# Altium footprint library CornellBajaLibrary.PcbLib: 134 footprints (part 9 of 9)
Each footprint in its own frame and in the unit in brackets; x right, y up, seen from the top. Pads: shape width x height; smd on the part's side, far side on the other; paste and mask are expansions set on the pad; w line width, h text height; cw(c..) or ccw(c..) is an arc to the next point about the centre after c.
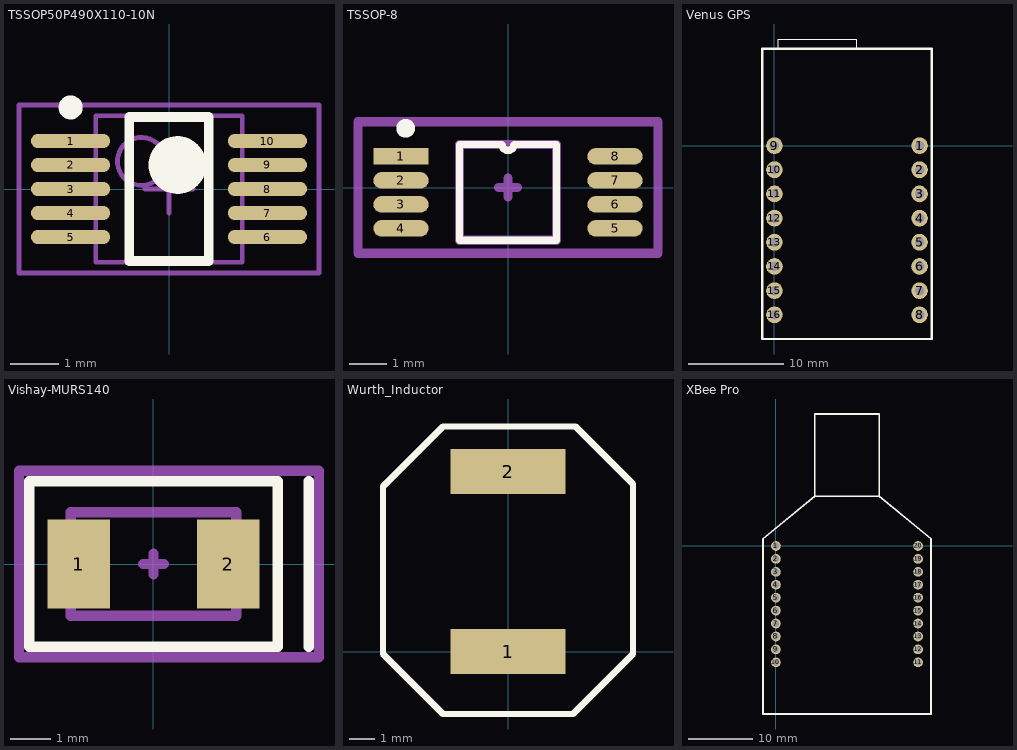
[diagram p8: the footprints below, top view; thin cyan lines are the x and y axes]

## TSSOP50P490X110-10N [mm] "TSSOP, 10-Leads, Body 3.0x3.0mm (max), Pitch 0.50mm, IPC Medium Density"
height 1.1
pads (10):
  oval 1.65x0.3 smd: 1(-2.05,1) 2(-2.05,0.5) 3(-2.05,0) 4(-2.05,-0.5) 5(-2.05,-1) 6(2.05,-1) 7(2.05,-0.5) 8(2.05,0) 9(2.05,0.5) 10(2.05,1)
Top Overlay:
  circle w0.6: c0.175,0.5 r0.3
  circle w0.25: c-2.05,1.7 r0.125
  lines w0.2: -0.825,-1.5 0.825,-1.5 0.825,1.5 -0.825,1.5 -0.825,-1.5
Mechanical 13:
  circle w0.1: c-0.575,0.575 r0.5
  lines w0.1: -1.525,-1.525 1.525,-1.525 1.525,1.525 -1.525,1.525 -1.525,-1.525
Mechanical 15:
  lines w0.1: -0.5,0 0.5,0 ; 0,-0.5 0,0.5 ; -3.125,-1.75 3.125,-1.75 3.125,1.75 -3.125,1.75 -3.125,-1.75
3D body: height 1.1, standoff 0.05, extent -1.525,-1.525 1.525,1.525

## TSSOP-8 [mm]
height 1.2
pads (8):
  rect 1.5x0.45 smd: 1(-2.9,0.843)
  oval 1.5x0.45 smd: 2(-2.9,0.192) 3(-2.9,-0.458) 4(-2.9,-1.108) 5(2.9,-1.108) 6(2.9,-0.458) 7(2.9,0.192) 8(2.9,0.843)
Top Overlay:
  circle w0.254: c-2.773,1.605 r0.127
  lines w0.2: -1.315,-1.433 1.315,-1.433 1.315,1.168 0.162,1.168 cw(c0,1.168) -0.162,1.168 -1.315,1.168 -1.315,-1.433
Mechanical 13:
  lines w0.254: -1.315,-1.433 1.315,-1.433 1.315,1.168 -1.315,1.168 -1.315,-1.433
Mechanical 15:
  lines w0.254: -0.254,0 0.254,0 ; 0,-0.254 0,0.254 ; -4.064,-1.778 4.064,-1.778 4.064,1.778 -4.064,1.778 ; -4.064,-1.778 -4.064,1.778 ; -4.064,-1.778 -4.064,1.778
3D body: height 1.2, standoff 0, extent -1.314,-1.432 1.314,1.167

## Venus GPS [mm]
pads (16):
  round 1.75 hole 1: 1(15.24,0) 2(15.24,-2.54) 3(15.24,-5.08) 4(15.24,-7.62) 5(15.24,-10.16) 6(15.24,-12.7) 7(15.24,-15.24) 8(15.24,-17.78) 9(0,0) 10(0,-2.54) 11(0,-5.08) 12(0,-7.62) 13(0,-10.16) 14(0,-12.7) 15(0,-15.24) 16(0,-17.78)
Top Overlay:
  lines w0.127: 0.4,10.16 0.4,11.2 8.655,11.2 8.655,10.16
  lines w0.25: -1.27,-20.32 -1.27,0 -1.27,10.16 16.51,10.16 16.51,-20.32 -1.27,-20.32
3D body: height 11.1, standoff 3.1, extent -1.45,-20.32 16.85,20.08

## Vishay-MURS140 [mil]
height 96
pads (2):
  rect 60x86 smd: 1(-72.25,0) 2(72.25,0)
Top Overlay:
  lines w10: 150,-80 150,80 ; -120,-80 120,-80 120,80 -120,80 -120,-80
Mechanical 13:
  lines w10: -80,-50 80,-50 80,50 -80,50 -80,-50
Mechanical 15:
  lines w10: -10,0 10,0 ; 0,-10 0,10 ; -130,-90 160,-90 160,90 -130,90 -130,-90
3D body: height 96, standoff 0, extent -79.98,-49.98 79.98,49.98

## Wurth_Inductor [mm]
pads (2):
  rect 4.6x1.8 smd: 1(0,0) 2(0,7.2)
Top Overlay:
  lines w0.254: -2.6,-2.5 -5,-0.1 -5,6.6 -2.6,9 2.7,9 5,6.7 5,-0.1 2.6,-2.5 -2.54,-2.5 ; 2.1,9 2.2,9

## XBee Pro [mm]
pads (20):
  round 1.5 hole 1: 1(0,0) 2(0,-2) 3(0,-4) 4(0,-6) 5(0,-8) 6(0,-10) 7(0,-12) 8(0,-14) 9(0,-16) 10(0,-18) 11(22,-18) 12(22,-16) 13(22,-14) 14(22,-12) 15(22,-10) 16(22,-8) 17(22,-6) 18(22,-4) 19(22,-2) 20(22,0)
Top Overlay:
  lines w0.25: -2,1.143 -2,-26 24,-26 24,1.143 ; -2,0 -2,0 ; -2,0 -2,0 ; 6,7.722 16,7.722 16,20.422 6,20.422 6,7.722
  lines w0.254: -2,1.143 6,7.722 ; 16,7.722 24,1.143
3D body: height 10, standoff 0.5, extent -2,-26 24,20.422